# Altium schematic symbol library Components - 16.09.21 - 16.55.SchLib: 1 symbol
Pins are listed as number, name and electrical type; pins without a type are passive.

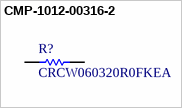
[diagram p0: symbol CMP-1012-00316-2]

## CMP-1012-00316-2
designator R?, comment CRCW060320R0FKEA
Manufacturer: Vishay Dale; Part Number: CRCW060320R0FKEA
footprint RESC1609X50X30NL10T20 (Chip Resistor, 2-Leads, Body 1.55x0.85mm, IPC Medium Density)
footprint RESC1609X50X30LL10T20 (Chip Resistor, 2-Leads, Body 1.55x0.85mm, IPC High Density)
footprint RESC1609X50X30ML10T20 (Chip Resistor, 2-Leads, Body 1.55x0.85mm, IPC Low Density)
pins: 1, 2
1 alternate drawing of the same symbol